# Altium footprint library TTL-RS485.PcbLib: 1 footprints
Each footprint in its own frame and in the unit in brackets; x right, y up, seen from the top. Pads: shape width x height; smd on the part's side, far side on the other; paste and mask are expansions set on the pad; w line width, h text height; cw(c..) or ccw(c..) is an arc to the next point about the centre after c.
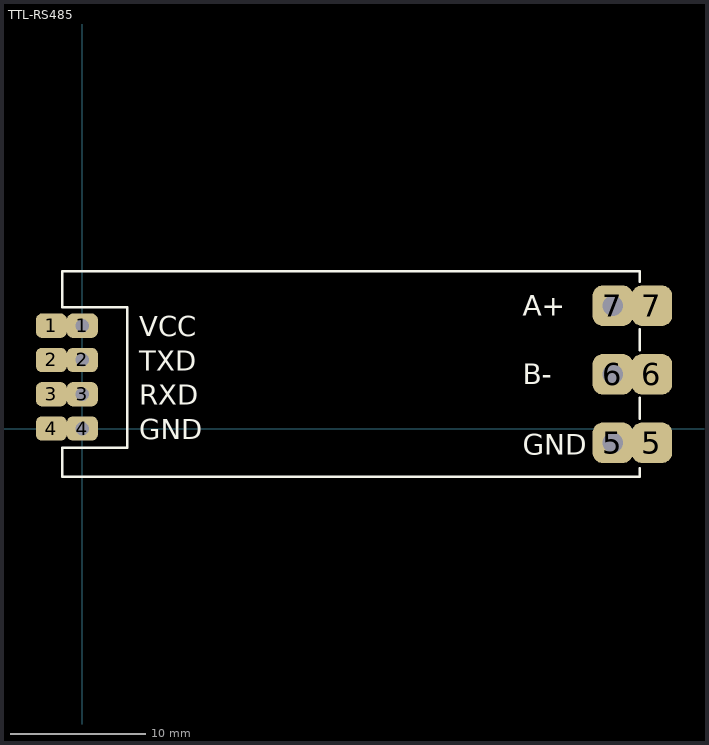
[diagram p0: the footprint, top view; thin cyan lines are the x and y axes]

## TTL-RS485 [mm]
pads (14):
  rrect50% 2.3x1.8 smd: 1(-2.3,7.62) 2(-2.3,5.08) 3(-2.3,2.54) 4(-2.3,0)
  rrect50% 2.3x1.8 hole 1: 1(0,7.62) 2(0,5.08) 3(0,2.54) 4(0,0)
  rrect50% 3x3 hole 1.5: 5(39.3,-1.06) 6(39.3,4.02) 7(39.3,9.1)
  rrect50% 3x3 smd: 5(42.2,-1.06) 6(42.2,4.02) 7(42.2,9.1)
Top Overlay:
  lines w0.2: 41.301,-2.945 41.301,-3.584 -1.499,-3.584 -1.5,-3.584 -1.5,-1.421 3.327,-1.421 3.327,8.993 -1.499,8.993 -1.499,11.664 -1.5,11.664 41.3,11.664 41.3,10.898 ; 41.301,0.738 41.301,2.262 ; 41.301,5.818 41.301,7.342 ; 41.3,7.342 41.301,7.342 ; 41.3,10.898 41.301,10.898
  text "GND" at 32.64,-1.929 h1.52
  text "GND" at 4.216,-0.786 h1.5
  text "RXD" at 4.216,1.754 h1.5
  text "TXD" at 4.216,4.294 h1.5
  text "VCC" at 4.216,6.834 h1.5
  text "A+" at 32.64,8.358 h1.52
  text "B-" at 32.64,3.278 h1.52